# EAGLE library part DIPSY_BB (library dipsy)
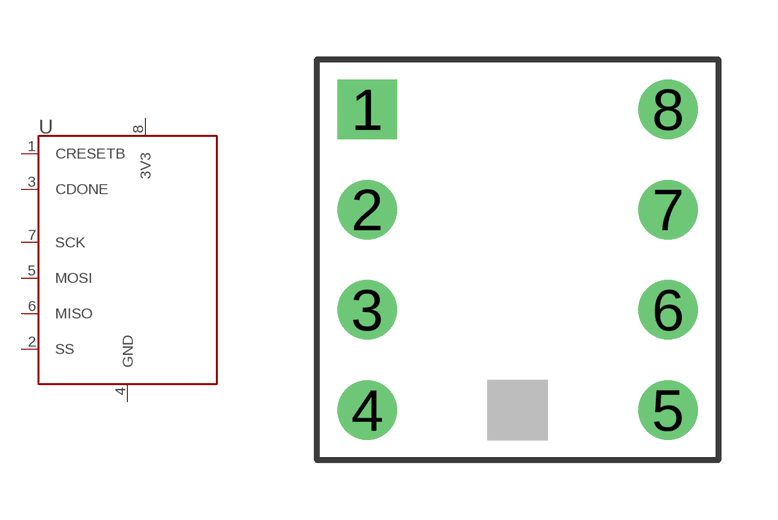
[diagram p1: symbol with the pads of DIPSY_BB; footprint DIPSY_BB]

Designator prefix U

## DIPSY_BB  [DIPSY_BB]
1  CRESETB  pas
2  SS
3  CDONE
4  GND  in
5  MOSI
6  MISO
7  SCK
8  3V3  in

## Footprint DIPSY_BB (pad centres in mm)
DIPSY breadboard footprint pad drill diameter: 1 mm
drill 1 square: 1 -3.81,3.81
drill 1: 2 -3.81,1.27; 3 -3.81,-1.27; 4 -3.81,-3.81; 5 3.81,-3.81; 6 3.81,-1.27; 7 3.81,1.27; 8 3.81,3.81